# EAGLE library part 6PIN_HEADER (library FABLAB_Kamakura)
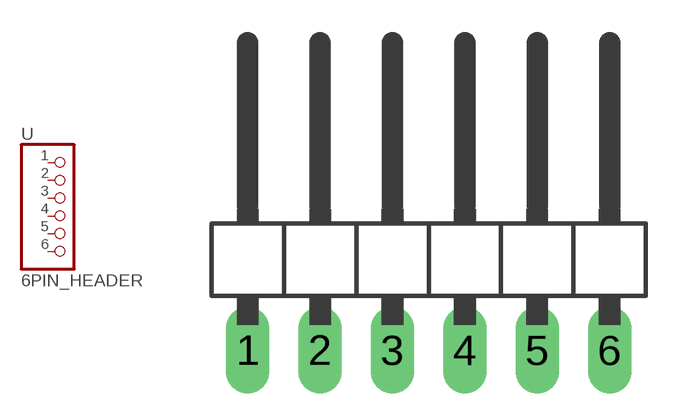
[diagram p1: symbol with the pads of 6PIN_HEADER; footprint 6PIN_HEADER]

Designator prefix -

## 6PIN_HEADER  [6PIN_HEADER]
1  1  pas
2  2  pas
3  3  pas
4  4  pas
5  5  pas
6  6  pas

## Footprint 6PIN_HEADER (pad centres in mm)
drill 1.016 long: 1 -6.35,-3.81; 2 -3.81,-3.81; 3 -1.27,-3.81; 4 1.27,-3.81; 5 3.81,-3.81; 6 6.35,-3.81